# EAGLE library part LM2671 (library Traficon)
SIMPLE SWITCHER Power Converter High Efficiency 500mA Step-Down Voltage Regulator with Features
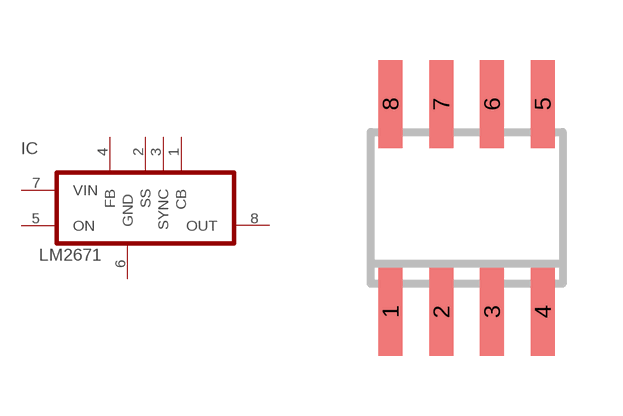
[diagram p1: symbol with the pads of SO08; footprint SO08]

Designator prefix IC

## LM2671-ADJ  [SO08]
1  CB  pas
2  SS  pas
3  SYNC  pas
4  FB  pas
5  ON  pas
6  GND  pas
7  VIN  pas
8  OUT  pas

## LM2671-3.3  [SO08]
Pads as for SO08

## Footprint SO08 (pad centres in mm)
SMALL OUTLINE INTEGRATED CIRCUIT body 3.9 mm/JEDEC MS-012AA
smd 0.6 x 2.2: 1 -1.905,-2.6; 2 -0.635,-2.6; 3 0.635,-2.6; 4 1.905,-2.6; 5 1.905,2.6; 6 0.635,2.6; 7 -0.635,2.6; 8 -1.905,2.6